# Altium schematic symbol library 4-in-1 ESC based on AM32.SchLib: 12 symbols
Pins are listed as number, name and electrical type; pins without a type are passive.

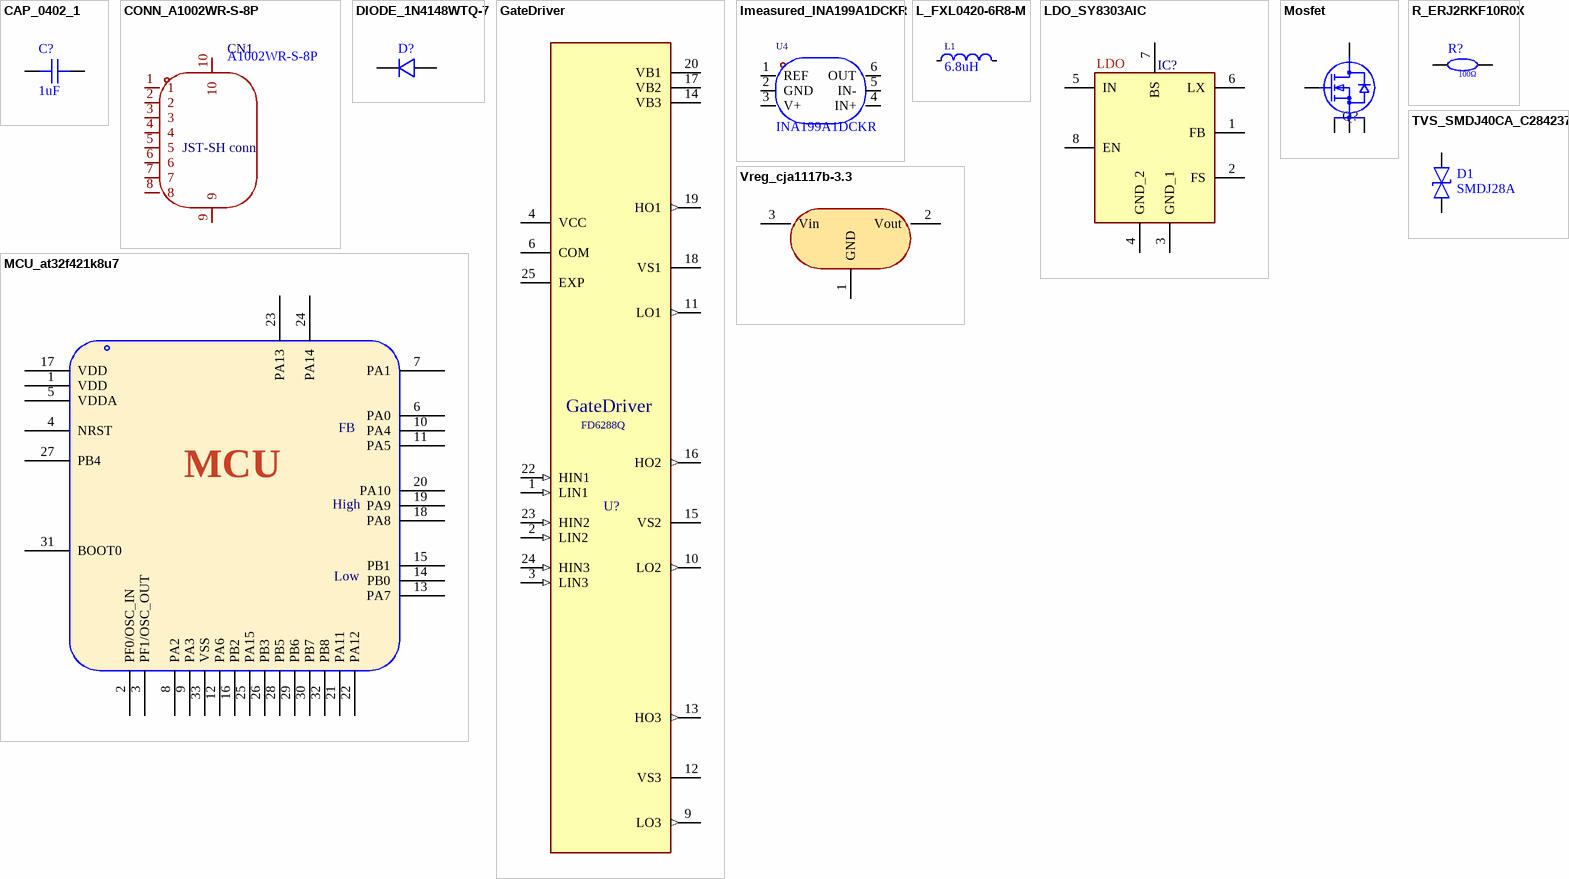
[diagram p0: symbols CAP_0402_1 to Vreg_cja1117b-3.3]

## CAP_0402_1
designator C?, comment 1uF
Symbol: CapAcitance; Device: CAP_0402; Convert to PCB: yes; Add into BOM: yes; Supplier Footprint: 0402; Value: 1uF; Supplier Part: C1518208
footprint C0402
3D model C0402_L1.0-W0.5-H0.5
pins: 1, 2

## CONN_A1002WR-S-8P
designator CN1, comment A1002WR-S-8P
Manufacturer: CJT(长江连接器); Add into BOM: yes; Connector Type: 接头; Pitch: 0.039quot;(1.00mm); Number of Positions: 8; Symbol: A1002WR-S-8P; Device: A1002WR-S-8P; LCSC Part Name: 8P,脚距1mm; Supplier Part: C239526; Manufacturer Part: A1002WR-S-8P; Supplier Footprint: SMD,P=1mm; JLCPCB Part Class: 扩展库; Datasheet: https://atta.szlcsc.com/upload/public/pdf/watermark/20190926/C239526_E6EB898D74B3D7AFB647860A542281E4.pdf; Supplier: LCSC; Convert to PCB: yes; Series: SH; Contact Type: 公形引脚; Number of Rows: 1; Row Spacing: -; Mounting Type: 表面贴装; Contact Material: 磷青铜
footprint CONN-SMD_A1002WR-S-8P
3D model CONN-SMD_SH1.00-WS-8P
pins: 1, 2, 3, 4, 5, 6, 7, 8, 9, 10
text: JST-SH conn

## DIODE_1N4148WTQ-7
designator D?, comment 1N4148WTQ-7  (value not drawn)
Manufacturer: DIODES(美台); Add into BOM: yes; Symbol: 1N4148WTQ-7; Device: 1N4148WTQ-7; LCSC Part Name: 1N4148WTQ-7; Supplier Part: C526201; Manufacturer Part: 1N4148WTQ-7; Supplier Footprint: SOD-523; JLCPCB Part Class: 扩展库; Datasheet: https://atta.szlcsc.com/upload/public/pdf/source/20190514/C260881_066AD27E33D2A47997C794E9A492FC20.pdf; Supplier: LCSC; Convert to PCB: yes
footprint SOD-523_L1.2-W0.8-LS1.6-FD
3D model SOD-523_L1.2-W0.8-LS1.6-RD-1
pins: 1, 2

## GateDriver
designator U?, comment FD6288Q  (value not drawn)
MOS Drivers QFN-24; MF: Fortior Tech; SnapEDA_Link: https://www.snapeda.com/parts/FD6288Q/Fortior+Tech/view-part/?ref=snap; Package: Package; Value: *; MP: FD6288Q; Check_prices: https://www.snapeda.com/parts/FD6288Q/Fortior+Tech/view-part/?ref=eda
footprint QFN50P400X400X90-25N
pins: 1 LIN1 (in), 2 LIN2 (in), 3 LIN3 (in), 4 VCC (power), 6 COM (power), 9 LO3 (out), 10 LO2 (out), 11 LO1 (out), 12 VS3 (power), 13 HO3 (out), 14 VB3 (power), 15 VS2 (power), 16 HO2 (out), 17 VB2 (power), 18 VS1 (power), 19 HO1 (out), 20 VB1 (power), 22 HIN1 (in), 23 HIN2 (in), 24 HIN3 (in), 25 EXP (power)

## Imeasured_INA199A1DCKR
designator U4, comment INA199A1DCKR
Manufacturer: TI(德州仪器); Add into BOM: yes; Supply Current: 300uA; Supply Voltage: -300mV~26V; Symbol: INA199A1DCKR; Device: INA199A1DCKR; Supplier: LCSC; Manufacturer Part: INA199A1DCKR; Supplier Part: C59135; JLCPCB Part Class: 扩展库; LCSC Part Name: INA199A1DCKR; Supplier Footprint: SOT-323-6; Datasheet: https://www.ti.com/cn/lit/gpn/ina199; Convert to PCB: yes; Operating Temperature: -40℃~+125℃
footprint SC-70-6_L2.2-W1.3-P0.65-LS2.1-BR
3D model SC-70-6_L2.0-W1.3-H1.0-P0.65
pins: 1 REF, 2 GND, 3 V+, 4 IN+, 5 IN-, 6 OUT

## L_FXL0420-6R8-M
designator L1, comment 6.8uH
Manufacturer: cjiang(长江微电); Symbol: FXL0420-6R8-M; Add into BOM: yes; Tolerance: ±20%; Rated Current: 2.4A; Saturation Current (Isat): 2.5A; DC Resistance (DCR): 160mΩ; Device: FXL0420-6R8-M; Supplier: LCSC; Supplier Part: C177241; Manufacturer Part: FXL0420-6R8-M; Value: 6.8uH; JLCPCB Part Class: 扩展库; LCSC Part Name: 6.8uH ±20% 2.5A; Supplier Footprint: SMD,4.2x4.4mm; Datasheet: https://atta.szlcsc.com/upload/public/pdf/source/20190322/C177241_926E0DC8333CBC0DC90F3B0802D0087D.pdf; Convert to PCB: yes
footprint IND-SMD_L4.4-W4.2
3D model IND-SMD_L4.2-W4.4-H2.0
pins: 1, 2

## LDO_SY8303AIC
designator IC?
Integrated Circuit; Manufacturer_Name: Silergy; Manufacturer_Part_Number: SY8303AIC; Datasheet Link: https://datasheet.lcsc.com/szlcsc/Silergy-Corp-SY8303AIC_C97054.pdf; Height: 1.1mm
footprint SOT65P280X110-8N
pins: 1 FB, 2 FS, 3 GND_1, 4 GND_2, 5 IN, 6 LX, 7 BS, 8 EN
text: LDO

## MCU_at32f421k8u7
designator U?, comment at32f421k8u7  (value not drawn)
CPU Core:ARM Cortex-M4 CPU Maximum Speed:120MHz Core Size:32 Bit Program Storage Size:64KB Program Memory Type:FLASH RAM Size:16KB EEPROM:- Number of I/O:27 Oscillator Type:Built-in+External Voltage - Supply:2.4V~3.6V Voltage - Supply:2.4V~3.6V Operating; Manufacturer: ARTERY(雅特力); AddInBom: yes; ModelId: 40e20aa7d2204881b0332c00d4af30de; ModelName: QFN-32_L5.0-W5.0-H0.9-P0.50; ModelTransform: 197.6374,197.6374,0,90,0,0,-0.789,-0.395,0; CPU Maximum Speed: 120MHz; Core Size: 32 Bit; Program Storage Size: 64KB; Program Memory Type: FLASH; RAM Size: 16KB; Number of I/O: 27; Symbol: AT32F421K8U7; LCSC Part Name: 基于 ARM 的 32 位 Cortex-M4 微控制器，具备闪存、定时器、ADC、比较器和通信接口; SupplierPart: C2965611; ManufacturerPart: AT32F421K8U7; Supplier Footprint: QFN-32(5x5); JLCPCB Part Class: Extended Part; Datasheet: https://item.szlcsc.com/datasheet/AT32F421K8U7/3357884.html; Supplier: LCSC; ConvertToPcb: yes; FootprintName: QFN-32_L5.0-W5.0-P0.50-BL-EP3.4; CPU Core: ARM Cortex-M4; EEPROM: -; Oscillator Type: Built-in+External; Voltage - Supply: 2.4V~3.6V; Operating Temperature: -40℃~+105℃; Features: Window watchdog (WWDG)；Independent watchdog (IWDG)；Undervoltage detection (BOR/LVD/LVR/LVI)；Calendar function；Power-on reset (POR)；Built-in general-purpose timer；Built-in temperature sensor；Hardware CRC；Infrared remote control；Integrated LDO
footprint QFN-32_L5.0-W5.0-P0.50-BL-EP3.4
pins: 1 VDD, 2 PF0/OSC_IN, 3 PF1/OSC_OUT, 4 NRST, 5 VDDA, 6 PA0, 7 PA1, 8 PA2, 9 PA3, 10 PA4, 11 PA5, 12 PA6, 13 PA7, 14 PB0, 15 PB1, 16 PB2, 17 VDD, 18 PA8, 19 PA9, 20 PA10, 21 PA11, 22 PA12, 23 PA13, 24 PA14, 25 PA15, 26 PB3, 27 PB4, 28 PB5, 29 PB6, 30 PB7, 31 BOOT0, 32 PB8, 33 VSS
text: FB; MCU; High; Low

## Mosfet
designator Q?, comment NTMFS5C430NLT1G  (value not drawn)
MOSFET (N-Channel); Manufacturer_Name: onsemi; Datasheet Link: https://www.onsemi.com/pub/Collateral/NTMFS5C430NL-D.PDF; Manufacturer_Part_Number: NTMFS5C430NLT1G; Mouser Part Number: 863-NTMFS5C430NLT1G; Mouser Price/Stock: https://www.mouser.co.uk/ProductDetail/onsemi/NTMFS5C430NLT1G?qs=raqtESnDWsBgV0Rq1XpCKg%3D%3D; Arrow Part Number: NTMFS5C430NLT1G; Arrow Price/Stock: https://www.arrow.com/en/products/ntmfs5c430nlt1g/on-semiconductor?utm_currency=USD&region=nac
footprint NRVTS10100EMFST1G
pins: 1 S_1, 2 S_2, 3 S_3, 4 G, 5 D

## R_ERJ2RKF10R0X
designator R?, comment 100Ω
Manufacturer: PANASONIC(松下); Symbol: 电阻; Device: ERJ2RKF10R0X; Add into BOM: yes; Tolerance: ±1%; Power(Watts): 100mW; Temperature Coefficient: ±100ppm/℃; Value: 10Ω; LCSC Part Name: 10Ω ±1% 100mW 厚膜电阻; Supplier Part: C413044; Manufacturer Part: ERJ2RKF10R0X; Supplier Footprint: 0402; JLCPCB Part Class: Extended Part; Datasheet: https://atta.szlcsc.com/upload/public/pdf/source/20190820/C413044_F4750BFC0D010E0807409DDD598E5114.pdf; Supplier: LCSC; Convert to PCB: yes; Overload Voltage (Max): -; Type: 厚膜电阻; Operating Temperature Range: -55℃~+155℃
footprint R0402
3D model R0402_L1.0-W0.5-H0.5
pins: 1, 2

## TVS_SMDJ40CA_C2842374
designator D1, comment SMDJ28A
Manufacturer: BORN(伯恩半导体); Manufacturer Part: SMDJ40CA; Symbol: SMDJ40CA_C2842374; Add into BOM: yes; Polarity: 双向; Reverse Stand-Off Voltage (Vrwm): 40V; Breakdown Voltage: 44.4V; Reverse Leakage Current (Ir): 1uA; Peak Pulse Current (Ipp)@10/1000μs: 46.5A; Maximum Clamping Voltage: 64.5V; Device: SMDJ40CA_C2842374; LCSC Part Name: 双向 Vrwm:40V; Supplier Part: C2842374; Supplier Footprint: DO-214AB; JLCPCB Part Class: 扩展库; Datasheet: https://atta.szlcsc.com/upload/public/pdf/source/20200413/C152077_2BEB0A19CF219C0016744A470088E912.pdf; Supplier: LCSC; Convert to PCB: yes
footprint SMC_L6.9-W5.9-LS7.9-BI
3D model SMC_L6.9-W5.9-H2.1-LS7.9
pins: 1, 2

## Vreg_cja1117b-3.3
designator U?, comment cja1117b-3.3  (value not drawn)
Output Configuration:Positive Voltage - Supply:15V Output Voltage:3.3V Output Voltage:3.3V Output Current:1A Power Supply Rejection Ratio (PSRR):75dB@(120Hz) Voltage Dropout:1.15V@(1A) standby current:5mA Noise:0.003%Vout Features:Thermal shutdown；Over Cu; Manufacturer: CJ(江苏长电/长晶); AddInBom: yes; ModelId: 78d1c457a54a48a6982859ae8b9fc42d; ModelName: SOT-89-3_L4.3-W2.5-H1.6-LS4.1-P1.50; ModelTransform: 161.417,169.291,0,180,0,0,-18.661,0,0; Voltage - Supply: 15V; Output Voltage: 3.3V; standby current: 5mA; Output Type: Fixed; Number of Outputs: 1; Symbol: CJA1117B-3.3; LCSC Part Name: 3.3V 1A 15V; SupplierPart: C24253; ManufacturerPart: CJA1117B-3.3; Supplier Footprint: SOT-89-3; JLCPCB Part Class: Extended Part; Datasheet: https://item.szlcsc.com/datasheet/CJA1117B-3.3/24993.html; Supplier: LCSC; ConvertToPcb: yes; FootprintName: SOT-89-3_L4.5-W2.5-P1.50-LS4.2-BR; Output Configuration: Positive; Output Current: 1A; Power Supply Rejection Ratio (PSRR): 75dB@(120Hz); Voltage Dropout: 1.15V@(1A); Noise: 0.003%Vout; Features: Thermal shutdown；Over Current Protection; Operating Temperature: -25℃~+125℃@(Tj)
footprint SOT-89-3_L4.5-W2.5-P1.50-LS4.2-BR
pins: 1 GND, 2 Vout, 3 Vin